# Altium footprint library PcbLib1.PcbLib: 22 footprints (part 1 of 2)
Each footprint in its own frame and in the unit in brackets; x right, y up, seen from the top. Pads: shape width x height; smd on the part's side, far side on the other; paste and mask are expansions set on the pad; w line width, h text height; cw(c..) or ccw(c..) is an arc to the next point about the centre after c.
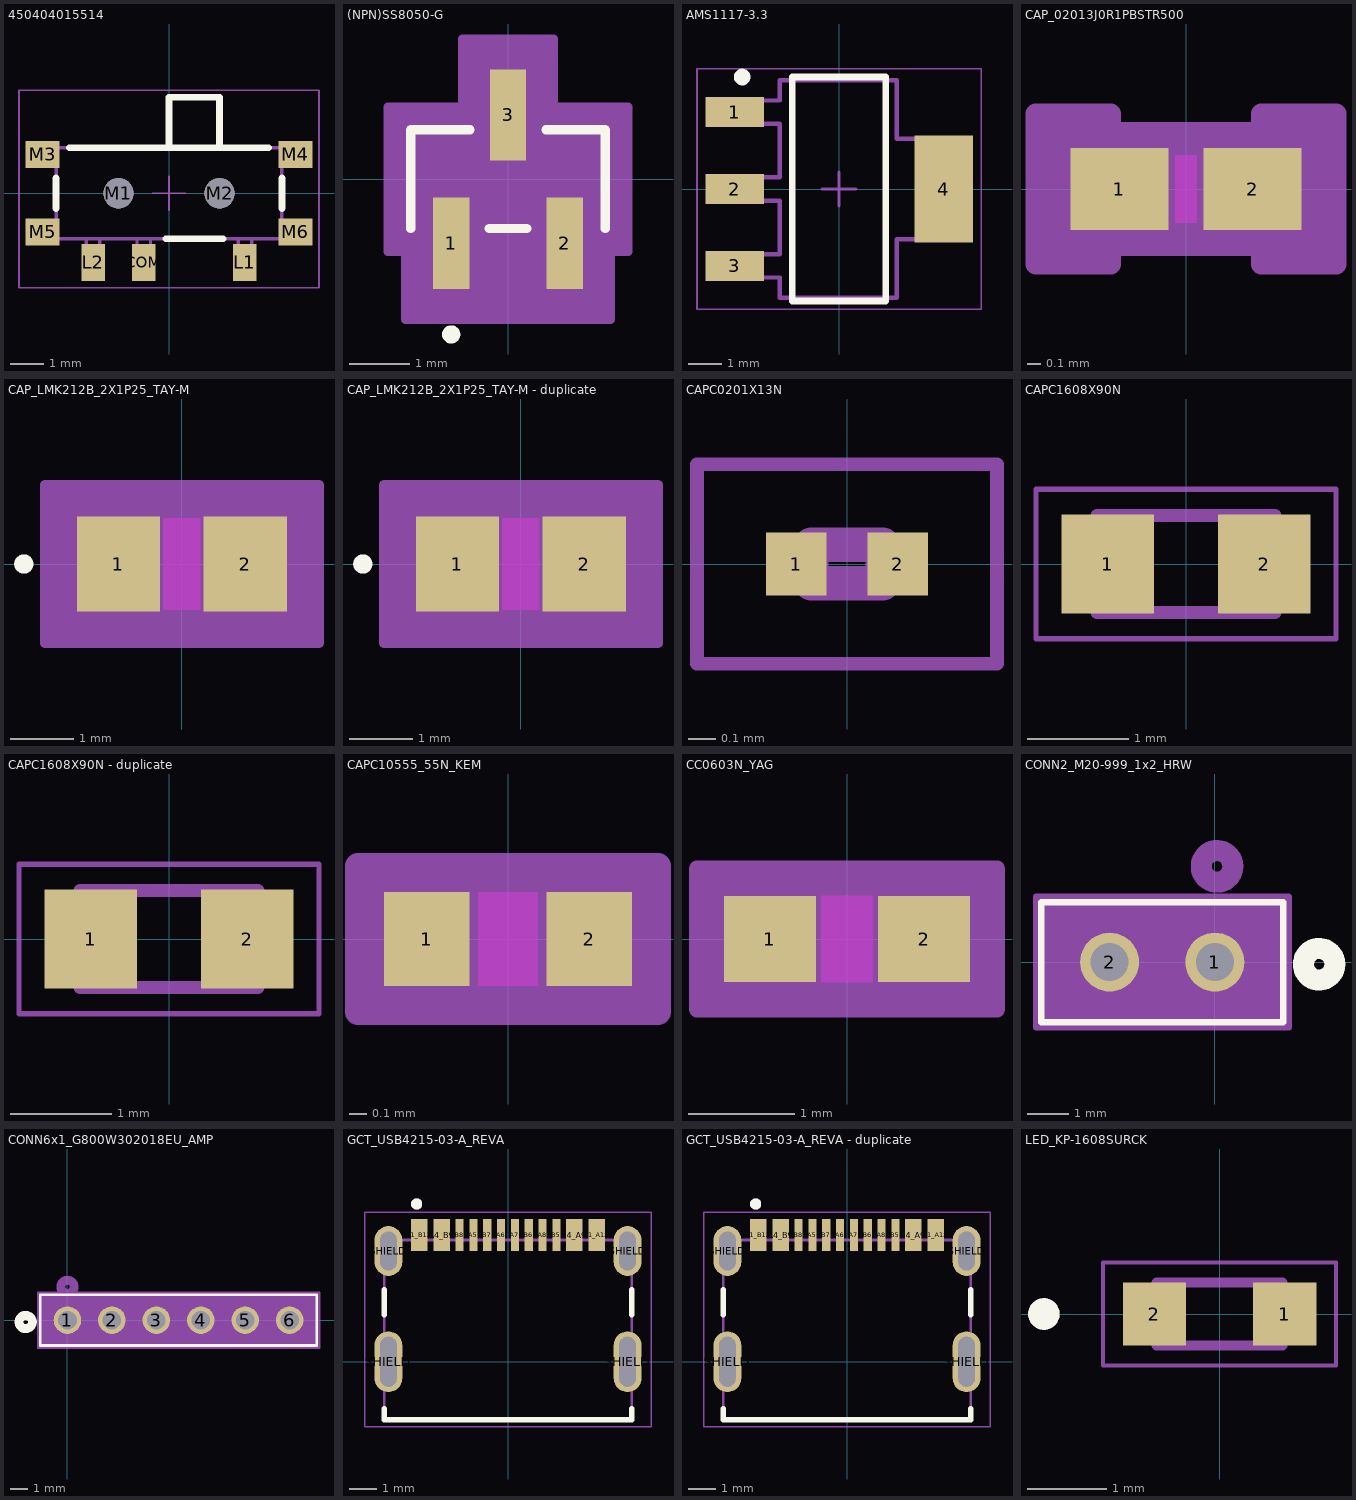
[diagram p0: the footprints below, top view; thin cyan lines are the x and y axes]

## 450404015514 [mm] "Right angle Slide Switch"
height 1.4
pads (9):
  rect 0.7x1.1 smd: COM(-0.75,-2.05) L1(2.25,-2.05) L2(-2.25,-2.05)
  round 0.9 hole 0.9 unplated: M1(-1.5,0) M2(1.5,0)
  rect 1x0.8 smd: M3(-3.75,1.15) M4(3.75,1.15) M5(-3.75,-1.15) M6(3.75,-1.15)
Top Overlay:
  lines w0.2: -3.35,-0.45 -3.35,0.45 ; -2.95,1.35 2.95,1.35 ; -0.1,-1.35 1.6,-1.35 ; 0,1.35 0,2.85 1.5,2.85 1.5,1.35 ; 3.35,-0.45 3.35,0.45
Top Courtyard:
  lines w0.05: -0.5,0 0.5,0 ; 0,-0.5 0,0.5 ; -4.45,-2.8 -4.45,3.05 4.45,3.05 4.45,-2.8 -4.45,-2.8
Top Component Outline:
  lines w0.1: -3.35,-1.25 -3.85,-1.25 -3.85,-0.85 -3.35,-0.85 ; -3.35,0.85 -3.85,0.85 -3.85,1.25 -3.35,1.25 ; -2.45,-1.35 -2.45,-2.25 -2.05,-2.25 -2.05,-1.35 ; -0.95,-1.35 -0.95,-2.25 -0.55,-2.25 -0.55,-1.35 ; 0,1.35 0,2.85 1.5,2.85 1.5,1.35 ; 2.05,-1.35 2.05,-2.25 2.45,-2.25 2.45,-1.35 ; 3.35,-1.25 3.85,-1.25 3.85,-0.85 3.35,-0.85 ; 3.35,0.85 3.85,0.85 3.85,1.25 3.35,1.25 ; -3.35,-1.35 3.35,-1.35 3.35,1.35 -3.35,1.35 -3.35,-1.35
3D body "450404015514.stp": height 1.4, standoff -0.5, extent -3.85,-2.25 3.85,2.88

## (NPN)SS8050-G [mil]
pads (3):
  rect 24x60 smd paste+0 mask+0: 1(-37.4,-42.2) 2(37.4,-42.2) 3(0,42.2)
Top Overlay:
  circle w6: c-37.4,-102.2 r3
  lines w6: -64,-32.5 -64,32.5 -25.1,32.5 ; -12.3,-32.5 12.3,-32.5 ; 25.1,32.5 64,32.5 64,-32.5
Mechanical 13:
  circle w0: c-37.4,-17.5 r3
  lines w1: -59,-27.5 -59,27.5 59,27.5 59,-27.5 -59,-27.5 ; -47.4,-50.2 -27.4,-50.2 -27.4,-27.5 -47.4,-27.5 -47.4,-50.2 ; -10,27.5 -10,50.2 10,50.2 10,27.5 -10,27.5 ; 27.4,-50.2 47.4,-50.2 47.4,-27.5 27.4,-27.5 27.4,-50.2
Mechanical 15:
  region: -79,-47.5 -79,47.5 -30,47.5 -30,92.2 30,92.2 30,47.5 79,47.5 79,-47.5 67.4,-47.5 67.4,-92.2 -67.4,-92.2 -67.4,-47.5
  lines w6: -79,-47.5 -67.4,-47.5 -67.4,-92.2 67.4,-92.2 67.4,-47.5 79,-47.5 79,47.5 30,47.5 30,92.2 -30,92.2 -30,47.5 -79,47.5 -79,-47.5
3D body "TRAN_SS8050-G_CIP.step": height 41.1, standoff 0, extent -59.02,-50.2 59.02,50.2

## AMS1117-3.3 [mm]
pads (4):
  rect 1.75x0.9 smd paste+0 mask+0.051: 1(-3.125,2.3) 2(-3.125,0) 3(-3.125,-2.3)
  rect 1.75x3.2 smd paste+0 mask+0.051: 4(3.125,0)
Top Overlay:
  circle w0.25: c-2.9,3.35 r0.125
  lines w0.2: -1.4,-3.35 1.4,-3.35 1.4,3.35 -1.4,3.35 -1.4,-3.35
Mechanical 13:
  lines w0.127: -3.525,-2.65 -2.797,-2.65 -2.612,-2.65 -2.374,-2.65 -2.003,-2.65 -1.775,-2.65 -1.775,-3.25 1.725,-3.25 1.725,-1.5 1.953,-1.5 2.324,-1.5 2.562,-1.5 2.747,-1.5 3.475,-1.5 3.475,1.5 2.747,1.5 2.562,1.5 2.324,1.5 1.953,1.5 1.725,1.5 1.725,3.25 -1.775,3.25 -1.775,2.65 -2.003,2.65 -2.374,2.65 -2.612,2.65 -2.797,2.65 -3.525,2.65 -3.525,1.95 -2.797,1.95 -2.612,1.95 -2.374,1.95 -2.003,1.95 -1.775,1.95 -1.775,0.35 -2.003,0.35 -2.374,0.35 -2.612,0.35 -2.797,0.35 -3.525,0.35 -3.525,-0.35 -2.797,-0.35 -2.612,-0.35 -2.374,-0.35 -2.003,-0.35 -1.775,-0.35 -1.775,-1.95 -2.003,-1.95 -2.374,-1.95 -2.612,-1.95 -2.797,-1.95 -3.525,-1.95 -3.525,-2.65
Mechanical 15:
  lines w0.05: -4.25,-3.6 -4.25,3.6 4.25,3.6 4.25,-3.6 -4.25,-3.6
  lines w0.1: -0.5,0 0.5,0 ; 0,-0.5 0,0.5
3D body "LM1117MPX-3.3_NOPB.stp": height 1.68, standoff 0, extent -3.5,-3.25 3.5,3.25

## CAP_02013J0R1PBSTR500 [mm]
pads (2):
  rect 0.72x0.6 smd paste+0 mask+0: 1(-0.49,0) 2(0.49,0)
Top Layer keep-out:
  region: -0.079,-0.249 -0.079,0.249 0.079,0.249 0.079,-0.249
Mechanical 13:
  lines w0.025: -0.3,-0.162 0.3,-0.162 0.3,0.162 -0.3,0.162 -0.3,-0.162
Mechanical 15:
  region: -0.554,-0.554 -1.104,-0.554 -1.104,0.554 -0.554,0.554 -0.554,0.416 0.554,0.416 0.554,0.554 1.104,0.554 1.104,-0.554 0.554,-0.554 0.554,-0.416 -0.554,-0.416
  lines w0.152: -1.104,-0.554 -1.104,0.554 -0.554,0.554 -0.554,0.416 0.554,0.416 0.554,0.554 1.104,0.554 1.104,-0.554 0.554,-0.554 0.554,-0.416 -0.554,-0.416 -0.554,-0.554 -1.104,-0.554
3D body "CAP_02013J0R1PBSTR500.step": height 0.28, standoff 0, extent -0.3,-0.163 0.3,0.163

## CAP_LMK212B_2X1P25_TAY-M [mil]
pads (2):
  rect 52x59 smd paste+0 mask+0: 1(-39.5,0) 2(39.5,0)
Top Layer keep-out:
  region: -11.5,-26.5 -11.5,26.5 11.5,26.5 11.5,-26.5
Top Overlay:
  circle w6: c-98.5,0 r3
Keep-Out Layer:
  region: -11.5,-28.5 -11.5,28.5 11.5,28.5 11.5,-28.5
Mechanical 13:
  circle w0: c-34.5,0 r3
  lines w1: -43.5,-28.5 -43.5,28.5 ; -43.5,-28.5 -13.5,-28.5 -13.5,28.5 -43.5,28.5 ; -43.5,-28.5 43.5,-28.5 ; -43.5,-28.5 -43.5,28.5 ; -43.5,28.5 43.5,28.5 ; 43.5,-28.5 13.5,-28.5 13.5,28.5 43.5,28.5 ; 43.5,-28.5 43.5,28.5 ; 43.5,-28.5 43.5,28.5
Mechanical 15:
  region: 85.5,-49.5 -85.5,-49.5 -85.5,49.5 85.5,49.5
  lines w6: -85.5,-49.5 -85.5,49.5 85.5,49.5 85.5,-49.5 -85.5,-49.5
3D body "CAP_LMK212B_2X1P25_TAY.step": height 57.01, standoff 0, extent -43.5,-28.5 43.5,28.5

## CAP_LMK212B_2X1P25_TAY-M - duplicate [mil]
pads (2):
  rect 52x59 smd paste+0 mask+0: 1(-39.5,0) 2(39.5,0)
Top Layer keep-out:
  region: -11.5,-26.5 -11.5,26.5 11.5,26.5 11.5,-26.5
Top Overlay:
  circle w6: c-98.5,0 r3
Keep-Out Layer:
  region: -11.5,-28.5 -11.5,28.5 11.5,28.5 11.5,-28.5
Mechanical 13:
  circle w0: c-34.5,0 r3
  lines w1: -43.5,-28.5 -43.5,28.5 ; -43.5,-28.5 43.5,-28.5 ; -43.5,-28.5 -13.5,-28.5 -13.5,28.5 -43.5,28.5 ; -43.5,-28.5 -43.5,28.5 ; -43.5,28.5 43.5,28.5 ; 43.5,-28.5 43.5,28.5 ; 43.5,-28.5 43.5,28.5 ; 43.5,-28.5 13.5,-28.5 13.5,28.5 43.5,28.5
Mechanical 15:
  region: 85.5,-49.5 -85.5,-49.5 -85.5,49.5 85.5,49.5
  lines w6: -85.5,-49.5 85.5,-49.5 85.5,49.5 -85.5,49.5 -85.5,-49.5
3D body "CAP_LMK212B_2X1P25_TAY.step": height 57.01, standoff 0, extent -43.5,-28.5 43.5,28.5

## CAPC0201X13N [mm]
pads (2):
  rect 0.22x0.23 smd: 1(-0.185,0) 2(0.185,0)
Mechanical 13:
  lines w0.127: -0.13,-0.07 -0.13,0.07 0.13,0.07 0.13,-0.07 -0.13,-0.07
Mechanical 15:
  lines w0.05: -0.546,-0.363 -0.546,0.363 0.546,0.363 0.546,-0.363 -0.546,-0.363
3D body "GRM011C80E104ME01L.STEP": height 0.14, standoff 0.01, extent -0.125,-0.076 0.125,0.062

## CAPC1608X90N [mm]
pads (2):
  rect 0.92x0.98 smd: 1(-0.775,0) 2(0.775,0)
Mechanical 13:
  lines w0.127: -0.88,-0.48 0.88,-0.48 0.88,0.48 -0.88,0.48 -0.88,-0.48
Mechanical 15:
  lines w0.05: -1.485,-0.74 1.485,-0.74 1.485,0.74 -1.485,0.74 -1.485,-0.74
3D body "CircuitWorks-CAPACITOR 0603.step": height 0.86, standoff 0, extent -0.8,-0.449 0.8,0.411

## CAPC1608X90N - duplicate [mm]
pads (2):
  rect 0.92x0.98 smd: 1(-0.775,0) 2(0.775,0)
Mechanical 13:
  lines w0.127: -0.88,-0.48 0.88,-0.48 0.88,0.48 -0.88,0.48 -0.88,-0.48
Mechanical 15:
  lines w0.05: -1.485,-0.74 1.485,-0.74 1.485,0.74 -1.485,0.74 -1.485,-0.74

## CAPC10555_55N_KEM [mm]
pads (2):
  rect 0.503x0.55 smd paste+0 mask+0: 1(-0.477,0) 2(0.477,0)
Top Layer keep-out:
  region: -0.174,-0.224 -0.174,0.224 0.174,0.224 0.174,-0.224
Keep-Out Layer:
  region: -0.174,-0.275 -0.174,0.275 0.174,0.275 0.174,-0.275
Mechanical 13:
  lines w0.025: -0.525,-0.275 -0.525,0.275 ; -0.525,-0.275 -0.275,-0.275 -0.275,0.275 -0.525,0.275 ; -0.525,-0.275 0.525,-0.275 ; -0.525,-0.275 -0.525,0.275 ; -0.525,0.275 0.525,0.275 ; 0.525,-0.275 0.275,-0.275 0.275,0.275 0.525,0.275 ; 0.525,-0.275 0.525,0.275 ; 0.525,-0.275 0.525,0.275
Mechanical 15:
  region: 0.881,-0.427 -0.881,-0.427 -0.881,0.427 0.881,0.427
  lines w0.152: -0.881,-0.427 -0.881,0.427 0.881,0.427 0.881,-0.427 -0.881,-0.427
3D body "CAPC10555_55N_KEM.step": height 0.55, standoff 0, extent -0.525,-0.275 0.525,0.275

## CC0603N_YAG [mil]
pads (2):
  rect 34x32 smd paste+0 mask+0: 1(-28.5,0) 2(28.5,0)
Top Layer keep-out:
  region: -9.5,-14 -9.5,14 9.5,14 9.5,-14
Keep-Out Layer:
  region: -9.5,-16 -9.5,16 9.5,16 9.5,-16
Mechanical 13:
  lines w1: -31.5,-16 -31.5,16 ; -31.5,-16 -11.5,-16 -11.5,16 -31.5,16 ; -31.5,-16 31.5,-16 ; -31.5,-16 -31.5,16 ; -31.5,16 31.5,16 ; 31.5,-16 11.5,-16 11.5,16 31.5,16 ; 31.5,-16 31.5,16 ; 31.5,-16 31.5,16
Mechanical 15:
  region: 55.5,-26 -55.5,-26 -55.5,26 55.5,26
  lines w6: -55.5,-26 -55.5,26 55.5,26 55.5,-26 -55.5,-26
3D body "CC0603N_YAG.step": height 27.99, standoff 0, extent -31.5,-15.98 31.5,15.98

## CONN2_M20-999_1x2_HRW [mil]
pads (2):
  round 56 / inner round 60 / far side round 56 hole 36 paste-28 mask+0: 1(0,0) 2(-100,0)
Top Overlay:
  circle w20: c99,-2 r15
  lines w6: -165,-57 -165,57 65,57 65,-57 -165,-57
Bottom Overlay:
  circle w20: c100,-4 r15
Mechanical 13:
  circle w20: c2,91 r15
  lines w1: -160,-52 -160,52 60,52 60,-52 -160,-52
Mechanical 15:
  region: 70,62 -170,62 -170,-62 70,-62
  lines w6: -170,-62 70,-62 70,62 -170,62 -170,-62
3D body "User Library-HEADER 2x1 Pitch 2_54x2_54.step": height 99.96, standoff -344.92, extent -150,-50 50,50

## CONN6x1_G800W302018EU_AMP [mil]
pads (6):
  round 62 / inner round 60 / far side round 62 hole 42 paste-31 mask+0: 1(0,0) 2(100,0) 3(200,0) 4(300,0) 5(400,0) 6(500,0)
Top Overlay:
  circle w20: c-94,-4 r15
  lines w6: -61,-57 -61,57 561,57 561,-57 -61,-57
Bottom Overlay:
  circle w20: c-94,-4 r15
Mechanical 13:
  circle w20: c0,75 r15
  lines w1: -56,-52 -56,52 556,52 556,-52 -56,-52
Mechanical 15:
  region: 566,62 -66,62 -66,-62 566,-62
  lines w6: -66,-62 566,-62 566,62 -66,62 -66,-62
3D body "User Library-1x6 TH Pitch 2_54mm.STEP": height 362.2, standoff -137.8, extent -50,-50 550,50

## GCT_USB4215-03-A_REVA [mm]
height 3.16
pads (16):
  rect 0.6x1.15 smd: A1_B12(-3.2,4.575) A4_B9(-2.4,4.575) B1_A12(3.2,4.575) B4_A9(2.4,4.575)
  rect 0.3x1.15 smd: A5(-1.25,4.575) A6(-0.25,4.575) A7(0.25,4.575) A8(1.25,4.575) B5(1.75,4.575) B6(0.75,4.575) B7(-0.75,4.575) B8(-1.75,4.575)
  oval 1x2.2 hole 0.6 slot 1.8 at 90 deg: SHIELD(-4.32,0) SHIELD(4.32,0)
  oval 1x1.8 hole 0.6 slot 1.4 at 90 deg: SHIELD(-4.32,4) SHIELD(4.32,4)
Top Overlay:
  circle w0.2: c-3.3,5.7 r0.1
  lines w0.2: -4.47,-1.7 -4.47,-2.1 4.47,-2.1 4.47,-1.7 ; -4.47,1.7 -4.47,2.6 ; 4.47,1.7 4.47,2.6
Mechanical 13:
  circle w0.2: c-3.3,5.7 r0.1
  lines w0.1: -4.47,-2.1 4.47,-2.1 4.47,4.4 -4.47,4.4 -4.47,-2.1
Mechanical 15:
  lines w0.05: -5.17,-2.35 5.17,-2.35 5.17,5.4 -5.17,5.4 -5.17,-2.35
3D body "USB4215-03-A.stp": height 3.28, standoff -0.78, extent -4.47,-2.177 4.47,4.572

## GCT_USB4215-03-A_REVA - duplicate [mm]
height 3.16
pads (16):
  rect 0.6x1.15 smd: A1_B12(-3.2,4.575) A4_B9(-2.4,4.575) B1_A12(3.2,4.575) B4_A9(2.4,4.575)
  rect 0.3x1.15 smd: A5(-1.25,4.575) A6(-0.25,4.575) A7(0.25,4.575) A8(1.25,4.575) B5(1.75,4.575) B6(0.75,4.575) B7(-0.75,4.575) B8(-1.75,4.575)
  oval 1x2.2 hole 0.6 slot 1.8 at 90 deg: SHIELD(-4.32,0) SHIELD(4.32,0)
  oval 1x1.8 hole 0.6 slot 1.4 at 90 deg: SHIELD(-4.32,4) SHIELD(4.32,4)
Top Overlay:
  circle w0.2: c-3.3,5.7 r0.1
  lines w0.2: -4.47,-1.7 -4.47,-2.1 4.47,-2.1 4.47,-1.7 ; -4.47,1.7 -4.47,2.6 ; 4.47,1.7 4.47,2.6
Mechanical 13:
  circle w0.2: c-3.3,5.7 r0.1
  lines w0.1: -4.47,-2.1 4.47,-2.1 4.47,4.4 -4.47,4.4 -4.47,-2.1
Mechanical 15:
  lines w0.05: -5.17,-2.35 5.17,-2.35 5.17,5.4 -5.17,5.4 -5.17,-2.35

## LED_KP-1608SURCK [mm]
height 1.1
pads (2):
  rect 0.8x0.8 smd: 1(0.825,0) 2(-0.825,0)
Top Overlay:
  circle w0.2: c-2.225,0 r0.1
Mechanical 13:
  circle w0.2: c-2.225,0 r0.1
  lines w0.127: -0.8,-0.4 -0.8,0.4 0.8,0.4 0.8,-0.4 -0.8,-0.4
Mechanical 15:
  lines w0.05: -1.475,-0.65 1.475,-0.65 1.475,0.65 -1.475,0.65 -1.475,-0.65
3D body "step_temp.STEP": height 1.1, standoff 0, extent -0.8,-0.4 0.8,0.4